# Altium integrated library Cypress USB Controllers.IntLib: 169 symbols (part 12 of 15)
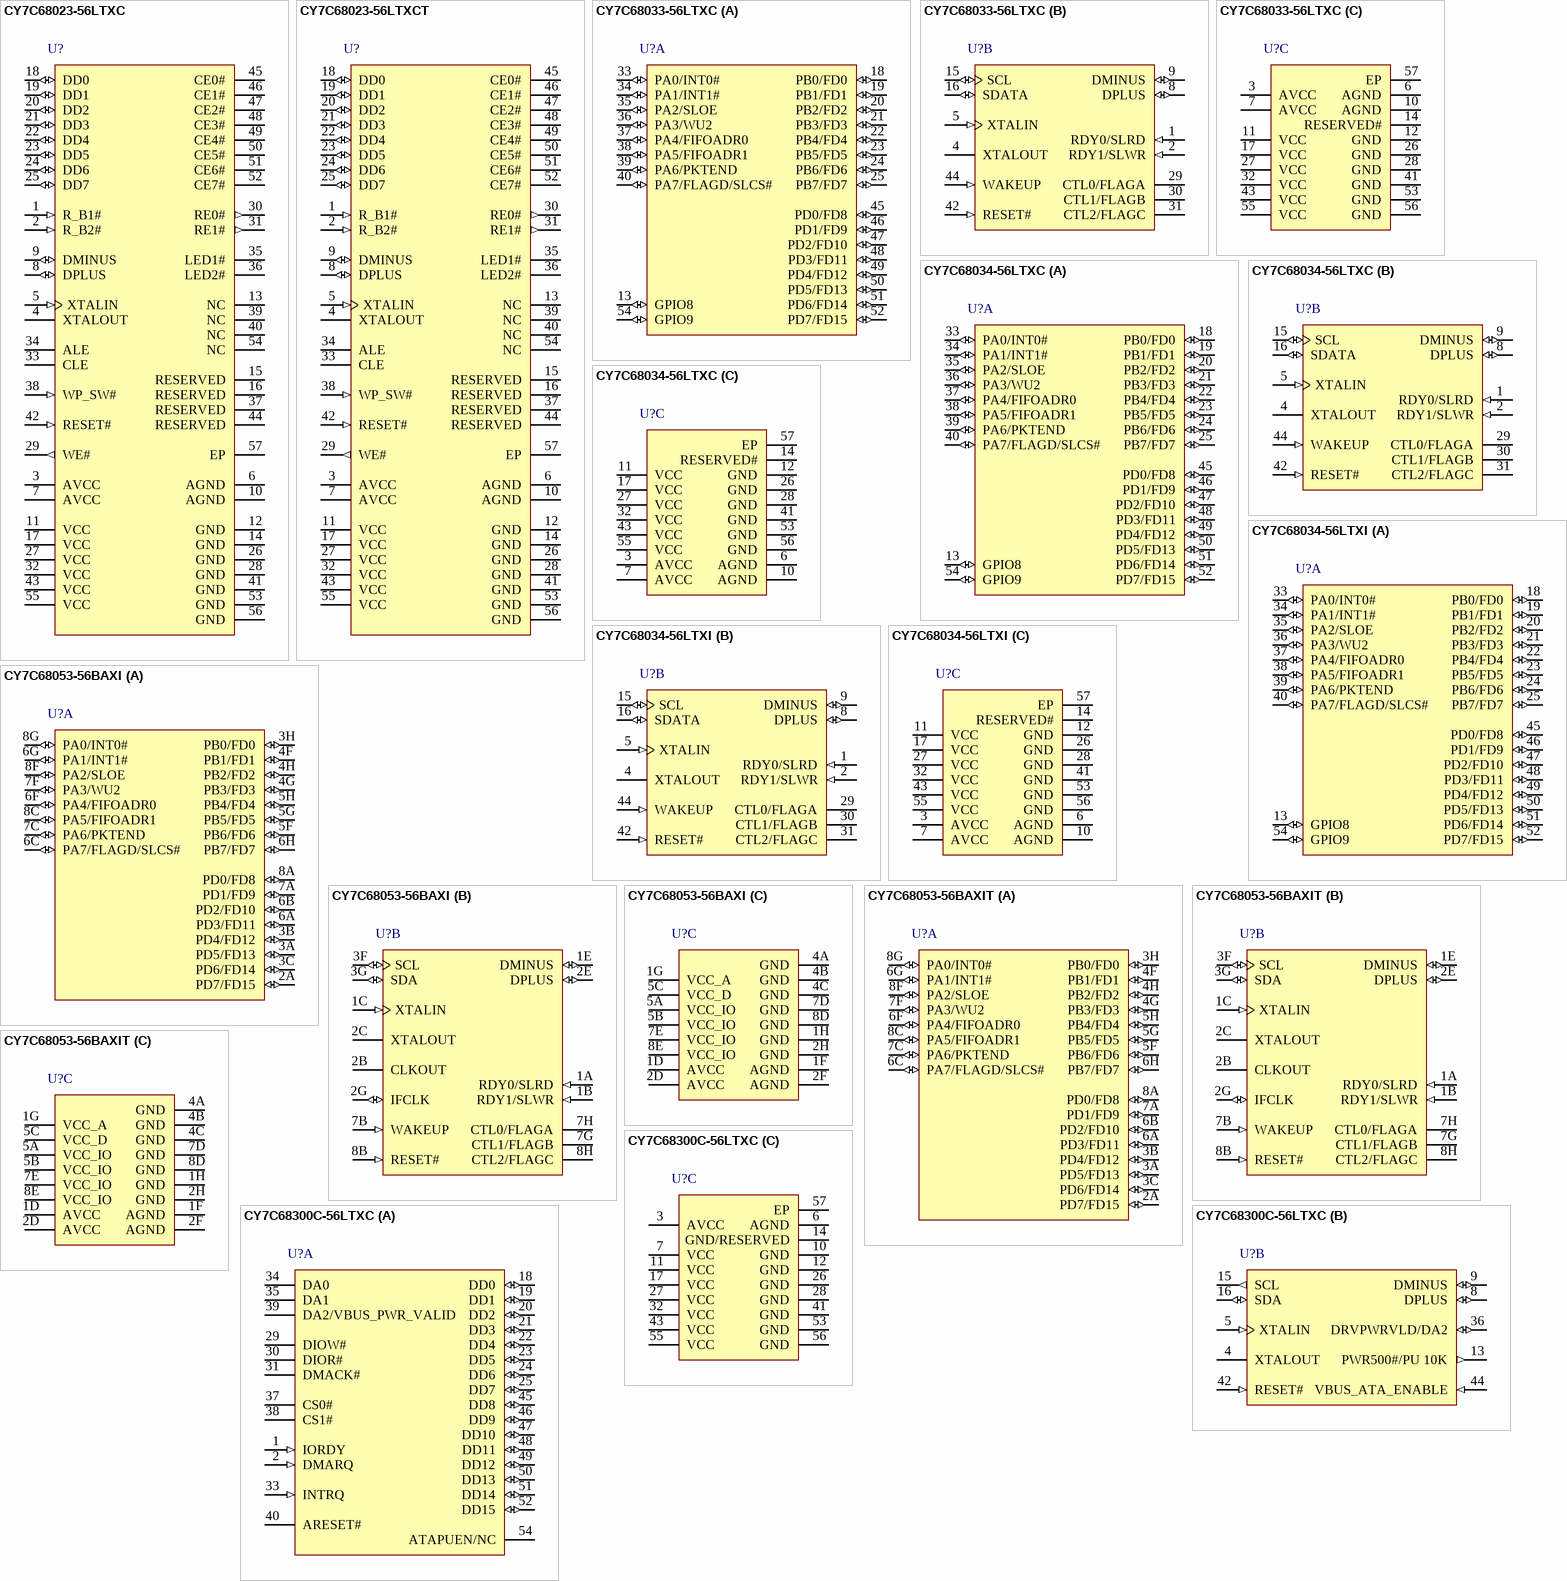
[diagram p33: symbols CY7C68023-56LTXC to CY7C68300C-56LTXC]

## CY7C68033-56LTXC
designator U?
EZ-USB(R) NX2LP-Flex(TM) Flexible USB NAND Flash Controller, 15 KB, 12 I/Os, 3 to 3.6 V, 0 to 70 degC, 56-Pin QFN (LTX56), Tray; Manufacturer: Cypress; PartNumber: CY7C68033-56LTXC; Max. Operating Voltage (V): 3.6; Memory Architecture: RAM; Memory Size (KB): 15; Min. Operating Voltage (V): 3; No. of I/Os: 12; Populated: Yes; DatasheetVersion: Rev. *J; PackageVersion: Rev. *D; PackageReference: LTX56; PackageDescription: 56-Pin Sawn QFN, Body 8 x 8 mm, Pitch 0.5 mm; Supplier 1: Digi-Key; Supplier Part Number 1: CY7C68033-56LTXC-ND; CPU Core: Enhanced 8051; Max. Operating Temp. (degreesC): 70; Min. Operating Temp. (degreesC): 0; Packing: Tray; RoHS: Pb-Free; Mounting Technology: Surface Mount; Code_JEDEC: MO-220; ComponentLink1Description: Manufacturer URL; ComponentLink1URL: http://www.cypress.com/; ComponentLink2Description: Datasheet; ComponentLink2URL: http://www.cypress.com/?docID=39611; ComponentLink3Description: Package Specification; ComponentLink3URL: http://www.cypress.com/?docID=47572
footprint CYP-LTX56-5200X4500TP_N (QFN, 56-Leads, Body 8.1x8.1mm, Pitch 0.5mm, Thermal Pad 5.2x4.5mm, IPC Medium Density)
footprint CYP-LTX56-5200X4500TP_L (QFN, 56-Leads, Body 8.1x8.1mm, Pitch 0.5mm, Thermal Pad 5.2x4.5mm, IPC High Density)
footprint CYP-LTX56-5200X4500TP_M (QFN, 56-Leads, Body 8.1x8.1mm, Pitch 0.5mm, Thermal Pad 5.2x4.5mm, IPC Low Density)
part A pins: 13 GPIO8 (io) "GPIO8: is a bidirectional I/O port pin", 18 PB0/FD0 (io), 19 PB1/FD1 (io), 20 PB2/FD2 (io), 21 PB3/FD3 (io), 22 PB4/FD4 (io), 23 PB5/FD5 (io), 24 PB6/FD6 (io), 25 PB7/FD7 (io), 33 PA0/INT0# (io), 34 PA1/INT1# (io), 35 PA2/SLOE (io), 36 PA3/WU2 (io), 37 PA4/FIFOADR0 (io), 38 PA5/FIFOADR1 (io), 39 PA6/PKTEND (io), 40 PA7/FLAGD/SLCS# (io), 45 PD0/FD8 (io), 46 PD1/FD9 (io), 47 PD2/FD10 (io), 48 PD3/FD11 (io), 49 PD4/FD12 (io), 50 PD5/FD13 (io), 51 PD6/FD14 (io), 52 PD7/FD15 (io), 54 GPIO9 (io) "GPIO9 is a bidirectional I/O port pin."
part B pins: 1 RDY0/SLRD (in), 2 RDY1/SLWR (in), 4 XTALOUT "Crystal Output. Connect this signal to a 24 MHz parallel-resonant, fundamental mode crystal and load capacitor to GND.If an external clock is used to drive XTALIN, leave this pin open.", 5 XTALIN (in) "Crystal Input. Connect this signal to a 24 MHz parallel-resonant, fundamental mode crystal and load capacitor to GND. It is also correct to drive XTALIN with an external 24-MHz square wave derived from another clock source. (See Datasheet)", 8 DPLUS (io) "USB D+ Signal. Connect to the USB D+ signal", 9 DMINUS (io) "USB D- Signal. Connect to the USB D- signal.", 15 SCL (io) "Clock for the I2C interface. Connect to VCC with a 2.2K resistor, even if no I2C peripheral is attached.", 16 SDATA (io) "Data for I2C compatible interface. Connect to VCC with a 2.2K resistor, even if no I2C compatible peripheral is attached.", 29 CTL0/FLAGA (hiz), 30 CTL1/FLAGB (hiz), 31 CTL2/FLAGC (hiz), 42 RESET# (in) "Active LOW Reset. Resets the entire chip.", 44 WAKEUP (in)
part C pins: 3 AVCC (power) "Analog VCC. Connect this pin to 3.3V power source. This signal provides power to the analog section of the chip.", 6 AGND (power) "Analog Ground. Connect to ground with as short a path as possible.", 7 AVCC (power) "Analog VCC. Connect this pin to 3.3V power source. This signal provides power to the analog section of the chip.", 10 AGND (power) "Analog Ground. Connect to ground with as short a path as possible.", 11 VCC (power) "VCC. Connect to 3.3 V power source.", 12 GND (power) "Ground.", 14 RESERVED# (power) "Reserved. Connect to ground.", 17 VCC (power) "VCC. Connect to 3.3 V power source.", 26 GND (power) "Ground.", 27 VCC (power) "VCC. Connect to 3.3 V power source.", 28 GND (power) "Ground.", 32 VCC (power) "VCC. Connect to 3.3 V power source.", 41 GND (power) "Ground.", 43 VCC (power) "VCC. Connect to 3.3 V power source.", 53 GND (power) "Ground.", 55 VCC (power) "VCC. Connect to 3.3 V power source.", 56 GND (power) "Ground.", 57 EP

## CY7C68034-56LTXC
designator U?
EZ-USB(R) NX2LP-Flex(TM) Flexible USB NAND Flash Controller, 15 KB, 12 I/Os, 3 to 3.6 V, 0 to 70 degC, 56-Pin QFN (LTX56), Tray; Manufacturer: Cypress; PartNumber: CY7C68034-56LTXC; Max. Operating Voltage (V): 3.6; Memory Architecture: RAM; Memory Size (KB): 15; Min. Operating Voltage (V): 3; No. of I/Os: 12; Populated: Yes; DatasheetVersion: Rev. *J; PackageVersion: Rev. *D; PackageReference: LTX56; PackageDescription: 56-Pin Sawn QFN, Body 8 x 8 mm, Pitch 0.5 mm; Supplier 1: Digi-Key; Supplier Part Number 1: CY7C68034-56LTXC-ND; CPU Core: Enhanced 8051; Max. Operating Temp. (degreesC): 70; Min. Operating Temp. (degreesC): 0; Packing: Tray; RoHS: Pb-Free; Mounting Technology: Surface Mount; Code_JEDEC: MO-220; ComponentLink1Description: Manufacturer URL; ComponentLink1URL: http://www.cypress.com/; ComponentLink2Description: Datasheet; ComponentLink2URL: http://www.cypress.com/?docID=39611; ComponentLink3Description: Package Specification; ComponentLink3URL: http://www.cypress.com/?docID=47572
footprint CYP-LTX56-5200X4500TP_N (QFN, 56-Leads, Body 8.1x8.1mm, Pitch 0.5mm, Thermal Pad 5.2x4.5mm, IPC Medium Density)
footprint CYP-LTX56-5200X4500TP_L (QFN, 56-Leads, Body 8.1x8.1mm, Pitch 0.5mm, Thermal Pad 5.2x4.5mm, IPC High Density)
footprint CYP-LTX56-5200X4500TP_M (QFN, 56-Leads, Body 8.1x8.1mm, Pitch 0.5mm, Thermal Pad 5.2x4.5mm, IPC Low Density)
part A pins: 13 GPIO8 (io) "GPIO8: is a bidirectional I/O port pin", 18 PB0/FD0 (io), 19 PB1/FD1 (io), 20 PB2/FD2 (io), 21 PB3/FD3 (io), 22 PB4/FD4 (io), 23 PB5/FD5 (io), 24 PB6/FD6 (io), 25 PB7/FD7 (io), 33 PA0/INT0# (io), 34 PA1/INT1# (io), 35 PA2/SLOE (io), 36 PA3/WU2 (io), 37 PA4/FIFOADR0 (io), 38 PA5/FIFOADR1 (io), 39 PA6/PKTEND (io), 40 PA7/FLAGD/SLCS# (io), 45 PD0/FD8 (io), 46 PD1/FD9 (io), 47 PD2/FD10 (io), 48 PD3/FD11 (io), 49 PD4/FD12 (io), 50 PD5/FD13 (io), 51 PD6/FD14 (io), 52 PD7/FD15 (io), 54 GPIO9 (io) "GPIO9 is a bidirectional I/O port pin."
part B pins: 1 RDY0/SLRD (in), 2 RDY1/SLWR (in), 4 XTALOUT "Crystal Output. Connect this signal to a 24 MHz parallel-resonant, fundamental mode crystal and load capacitor to GND.If an external clock is used to drive XTALIN, leave this pin open.", 5 XTALIN (in) "Crystal Input. Connect this signal to a 24 MHz parallel-resonant, fundamental mode crystal and load capacitor to GND. It is also correct to drive XTALIN with an external 24-MHz square wave derived from another clock source. (See Datasheet)", 8 DPLUS (io) "USB D+ Signal. Connect to the USB D+ signal", 9 DMINUS (io) "USB D- Signal. Connect to the USB D- signal.", 15 SCL (io) "Clock for the I2C interface. Connect to VCC with a 2.2K resistor, even if no I2C peripheral is attached.", 16 SDATA (io) "Data for I2C compatible interface. Connect to VCC with a 2.2K resistor, even if no I2C compatible peripheral is attached.", 29 CTL0/FLAGA (hiz), 30 CTL1/FLAGB (hiz), 31 CTL2/FLAGC (hiz), 42 RESET# (in) "Active LOW Reset. Resets the entire chip.", 44 WAKEUP (in)
part C pins: 3 AVCC (power) "Analog VCC. Connect this pin to 3.3V power source. This signal provides power to the analog section of the chip.", 6 AGND (power) "Analog Ground. Connect to ground with as short a path as possible.", 7 AVCC (power) "Analog VCC. Connect this pin to 3.3V power source. This signal provides power to the analog section of the chip.", 10 AGND (power) "Analog Ground. Connect to ground with as short a path as possible.", 11 VCC (power) "VCC. Connect to 3.3 V power source.", 12 GND (power) "Ground.", 14 RESERVED# (power) "Reserved. Connect to ground.", 17 VCC (power) "VCC. Connect to 3.3 V power source.", 26 GND (power) "Ground.", 27 VCC (power) "VCC. Connect to 3.3 V power source.", 28 GND (power) "Ground.", 32 VCC (power) "VCC. Connect to 3.3 V power source.", 41 GND (power) "Ground.", 43 VCC (power) "VCC. Connect to 3.3 V power source.", 53 GND (power) "Ground.", 55 VCC (power) "VCC. Connect to 3.3 V power source.", 56 GND (power) "Ground.", 57 EP

## CY7C68034-56LTXI
designator U?
EZ-USB(R) NX2LP-Flex(TM) Flexible USB NAND Flash Controller, 15 KB, 12 I/Os, 3 to 3.6 V, -40 to 85 degC, 56-Pin QFN (LTX56), Tray; Manufacturer: Cypress; PartNumber: CY7C68034-56LTXI; Max. Operating Voltage (V): 3.6; Memory Architecture: RAM; Memory Size (KB): 15; Min. Operating Voltage (V): 3; No. of I/Os: 12; Populated: Yes; DatasheetVersion: Rev. *J; PackageVersion: Rev. *D; PackageReference: LTX56; PackageDescription: 56-Pin Sawn QFN, Body 8 x 8 mm, Pitch 0.5 mm; Supplier 1: Digi-Key; Supplier Part Number 1: CY7C68034-56LTXI-ND; CPU Core: Enhanced 8051; Max. Operating Temp. (degreesC): 85; Min. Operating Temp. (degreesC): -40; Packing: Tray; RoHS: Pb-Free; Mounting Technology: Surface Mount; Code_JEDEC: MO-220; ComponentLink1Description: Manufacturer URL; ComponentLink1URL: http://www.cypress.com/; ComponentLink2Description: Datasheet; ComponentLink2URL: http://www.cypress.com/?docID=39611; ComponentLink3Description: Package Specification; ComponentLink3URL: http://www.cypress.com/?docID=47572
footprint CYP-LTX56-5200X4500TP_N (QFN, 56-Leads, Body 8.1x8.1mm, Pitch 0.5mm, Thermal Pad 5.2x4.5mm, IPC Medium Density)
footprint CYP-LTX56-5200X4500TP_L (QFN, 56-Leads, Body 8.1x8.1mm, Pitch 0.5mm, Thermal Pad 5.2x4.5mm, IPC High Density)
footprint CYP-LTX56-5200X4500TP_M (QFN, 56-Leads, Body 8.1x8.1mm, Pitch 0.5mm, Thermal Pad 5.2x4.5mm, IPC Low Density)
part A pins: 13 GPIO8 (io) "GPIO8: is a bidirectional I/O port pin", 18 PB0/FD0 (io), 19 PB1/FD1 (io), 20 PB2/FD2 (io), 21 PB3/FD3 (io), 22 PB4/FD4 (io), 23 PB5/FD5 (io), 24 PB6/FD6 (io), 25 PB7/FD7 (io), 33 PA0/INT0# (io), 34 PA1/INT1# (io), 35 PA2/SLOE (io), 36 PA3/WU2 (io), 37 PA4/FIFOADR0 (io), 38 PA5/FIFOADR1 (io), 39 PA6/PKTEND (io), 40 PA7/FLAGD/SLCS# (io), 45 PD0/FD8 (io), 46 PD1/FD9 (io), 47 PD2/FD10 (io), 48 PD3/FD11 (io), 49 PD4/FD12 (io), 50 PD5/FD13 (io), 51 PD6/FD14 (io), 52 PD7/FD15 (io), 54 GPIO9 (io) "GPIO9 is a bidirectional I/O port pin."
part B pins: 1 RDY0/SLRD (in), 2 RDY1/SLWR (in), 4 XTALOUT "Crystal Output. Connect this signal to a 24 MHz parallel-resonant, fundamental mode crystal and load capacitor to GND.If an external clock is used to drive XTALIN, leave this pin open.", 5 XTALIN (in) "Crystal Input. Connect this signal to a 24 MHz parallel-resonant, fundamental mode crystal and load capacitor to GND. It is also correct to drive XTALIN with an external 24-MHz square wave derived from another clock source. (See Datasheet)", 8 DPLUS (io) "USB D+ Signal. Connect to the USB D+ signal", 9 DMINUS (io) "USB D- Signal. Connect to the USB D- signal.", 15 SCL (io) "Clock for the I2C interface. Connect to VCC with a 2.2K resistor, even if no I2C peripheral is attached.", 16 SDATA (io) "Data for I2C compatible interface. Connect to VCC with a 2.2K resistor, even if no I2C compatible peripheral is attached.", 29 CTL0/FLAGA (hiz), 30 CTL1/FLAGB (hiz), 31 CTL2/FLAGC (hiz), 42 RESET# (in) "Active LOW Reset. Resets the entire chip.", 44 WAKEUP (in)
part C pins: 3 AVCC (power) "Analog VCC. Connect this pin to 3.3V power source. This signal provides power to the analog section of the chip.", 6 AGND (power) "Analog Ground. Connect to ground with as short a path as possible.", 7 AVCC (power) "Analog VCC. Connect this pin to 3.3V power source. This signal provides power to the analog section of the chip.", 10 AGND (power) "Analog Ground. Connect to ground with as short a path as possible.", 11 VCC (power) "VCC. Connect to 3.3 V power source.", 12 GND (power) "Ground.", 14 RESERVED# (power) "Reserved. Connect to ground.", 17 VCC (power) "VCC. Connect to 3.3 V power source.", 26 GND (power) "Ground.", 27 VCC (power) "VCC. Connect to 3.3 V power source.", 28 GND (power) "Ground.", 32 VCC (power) "VCC. Connect to 3.3 V power source.", 41 GND (power) "Ground.", 43 VCC (power) "VCC. Connect to 3.3 V power source.", 53 GND (power) "Ground.", 55 VCC (power) "VCC. Connect to 3.3 V power source.", 56 GND (power) "Ground.", 57 EP

## CY7C68053-56BAXI
designator U?
MoBL-USB(TM) FX2LP18 USB Microcontroller, 16 KB, 24 I/Os, -40 to 85 degC, 56-Pin VFBGA (BAX56), Tray; Manufacturer: Cypress; PartNumber: CY7C68053-56BAXI; Max. Operating Voltage (V): 3.3; Memory Architecture: RAM; Memory Size (KB): 16; Min. Operating Voltage (V): 1.8; No. of I/Os: 24; Populated: Yes; DatasheetVersion: Rev. *K; PackageVersion: Rev. *B, 09/2005; PackageReference: BAX56; PackageDescription: 56-Ball FBGA, Body 5 x 5 mm, Pitch 0.5 mm; Supplier 1: Digi-Key; Supplier Part Number 1: CY7C68053-56BAXI-ND; CPU Core: Enhanced 8051; Max. Operating Temp. (degreesC): 85; Min. Operating Temp. (degreesC): -40; Packing: Tray; RoHS: Pb-Free; Mounting Technology: Surface Mount; Code_JEDEC: MO-195C; ComponentLink1Description: Manufacturer URL; ComponentLink1URL: http://www.cypress.com/; ComponentLink2Description: Datasheet; ComponentLink2URL: http://www.cypress.com/?docID=47165; ComponentLink3Description: Package Specification; ComponentLink3URL: http://www.cypress.com/?docID=1010
footprint CYP-BAX56 (BGA, 56-Balls, Body 5x5mm, Pitch 0.5mm)
part A pins: 2A PD7/FD15 (io), 3A PD5/FD13 (io), 3B PD4/FD12 (io), 3C PD6/FD14 (io), 3H PB0/FD0 (io), 4F PB1/FD1 (io), 4G PB3/FD3 (io), 4H PB2/FD2 (io), 5F PB6/FD6 (io), 5G PB5/FD5 (io), 5H PB4/FD4 (io), 6A PD3/FD11 (io), 6B PD2/FD10 (io), 6C PA7/FLAGD/SLCS# (io), 6F PA4/FIFOADR0 (io), 6G PA1/INT1# (io), 6H PB7/FD7 (io), 7A PD1/FD9 (io), 7C PA6/PKTEND (io), 7F PA3/WU2 (io), 8A PD0/FD8 (io), 8C PA5/FIFOADR1 (io), 8F PA2/SLOE (io), 8G PA0/INT0# (io)
part B pins: 1A RDY0/SLRD (in), 1B RDY1/SLWR (in), 1C XTALIN (in) "Crystal Input. Connect this signal to a 24 MHz parallel-resonant, fundamental mode crystal and load capacitor to GND. It is also correct to drive XTALIN with an external 24-MHz square wave derived from another clock source. (See Datasheet)", 1E DMINUS (io) "USB D- Signal. Connect to the USB D- signal.", 2B CLKOUT (hiz) "12-, 24- or 48 MHz clock, phase locked to the 24 MHz input clock. The 8051 defaults to 12 MHz operation. The 8051 may three-state this output by setting CPUCS.1 = 1.", 2C XTALOUT "Crystal Output. Connect this signal to a 24 MHz parallel-resonant, fundamental mode crystal and load capacitor to GND.If an external clock is used to drive XTALIN, leave this pin open.", 2E DPLUS (io) "USB D+ Signal. Connect to the USB D+ signal", 2G IFCLK (io) "Interface Clock, used for synchronously clocking data into or out of the slave FIFOs. IFCLK also serves as a timing reference for all slave FIFO control signals and GPIF. When internal clocking is used (IFCONFIG.7 = 1) the (See Datasheet)", 3F SCL (io) "Clock for the I2C interface. Connect to VCC_IO or VCC with a 2.2K-10K pull up resistor. (An I2C peripheral is required.)", 3G SDA (io) "Data for the I2C interface. Connect to VCC_IO or VCC with a 2.2K-10K pull up resistor. (An I2C peripheral is required.)", 7B WAKEUP (in) "USB Wakeup. If the 8051 is in suspend, asserting this pin starts up the oscillator and interrupts the 8051 to allow it to exit the suspend mode. Holding WAKEUP asserted inhibits the MoBL-USB chip from suspending. This pin (See Datasheet)", 7G CTL1/FLAGB (hiz), 7H CTL0/FLAGA (hiz), 8B RESET# (in) "Active LOW Reset. Resets the entire chip. See section 2.9 ”Reset and Wakeup?on page 8 for more details.", 8H CTL2/FLAGC (hiz)
part C pins: 1D AVCC (power) "Analog VCC. Connect this pin to 3.3V power source. This signal provides power to the analog section of the chip.", 1F AGND (power) "Analog Ground. Connect to ground with as short a path as possible.", 1G VCC_A (power) "VCC. Connect this pin to 1.8V power source. (Supplies power to internal analog 1.8 V circuits.)", 1H GND (power) "Ground.", 2D AVCC (power) "Analog VCC. Connect this pin to 3.3V power source. This signal provides power to the analog section of the chip.", 2F AGND (power) "Analog Ground. Connect to ground with as short a path as possible.", 2H GND (power) "Ground.", 4A GND (power) "Ground.", 4B GND (power) "Ground.", 4C GND (power) "Ground.", 5A VCC_IO (power) "VCC. Connect to 3.3 V power source.", 5B VCC_IO (power) "VCC. Connect to 3.3 V power source.", 5C VCC_D (power) "VCC. Connect this pin to 1.8V power source. (Supplies power to internal digital 1.8 V circuits.) Provide the appropriate bulk and bypass capacitance for this supply rail.", 7D GND (power) "Ground.", 7E VCC_IO (power) "VCC. Connect to 3.3 V power source.", 8D GND (power) "Ground.", 8E VCC_IO (power) "VCC. Connect to 3.3 V power source."

## CY7C68053-56BAXIT
designator U?
MoBL-USB(TM) FX2LP18 USB Microcontroller, 16 KB, 24 I/Os, -40 to 85 degC, 56-Pin VFBGA (BAX56), Tape and Reel; Manufacturer: Cypress; PartNumber: CY7C68053-56BAXIT; Max. Operating Voltage (V): 3.3; Memory Architecture: RAM; Memory Size (KB): 16; Min. Operating Voltage (V): 1.8; No. of I/Os: 24; Populated: Yes; DatasheetVersion: Rev. *K; PackageVersion: Rev. *B, 09/2005; PackageReference: BAX56; PackageDescription: 56-Ball FBGA, Body 5 x 5 mm, Pitch 0.5 mm; Supplier 1: Digi-Key; Supplier Part Number 1: CY7C68053-56BAXIT-ND; CPU Core: Enhanced 8051; Max. Operating Temp. (degreesC): 85; Min. Operating Temp. (degreesC): -40; Packing: Tape and Reel; RoHS: Pb-Free; Mounting Technology: Surface Mount; Code_JEDEC: MO-195C; ComponentLink1Description: Manufacturer URL; ComponentLink1URL: http://www.cypress.com/; ComponentLink2Description: Datasheet; ComponentLink2URL: http://www.cypress.com/?docID=47165; ComponentLink3Description: Package Specification; ComponentLink3URL: http://www.cypress.com/?docID=1010
footprint CYP-BAX56 (BGA, 56-Balls, Body 5x5mm, Pitch 0.5mm)
part A pins: 2A PD7/FD15 (io), 3A PD5/FD13 (io), 3B PD4/FD12 (io), 3C PD6/FD14 (io), 3H PB0/FD0 (io), 4F PB1/FD1 (io), 4G PB3/FD3 (io), 4H PB2/FD2 (io), 5F PB6/FD6 (io), 5G PB5/FD5 (io), 5H PB4/FD4 (io), 6A PD3/FD11 (io), 6B PD2/FD10 (io), 6C PA7/FLAGD/SLCS# (io), 6F PA4/FIFOADR0 (io), 6G PA1/INT1# (io), 6H PB7/FD7 (io), 7A PD1/FD9 (io), 7C PA6/PKTEND (io), 7F PA3/WU2 (io), 8A PD0/FD8 (io), 8C PA5/FIFOADR1 (io), 8F PA2/SLOE (io), 8G PA0/INT0# (io)
part B pins: 1A RDY0/SLRD (in), 1B RDY1/SLWR (in), 1C XTALIN (in) "Crystal Input. Connect this signal to a 24 MHz parallel-resonant, fundamental mode crystal and load capacitor to GND. It is also correct to drive XTALIN with an external 24-MHz square wave derived from another clock source. (See Datasheet)", 1E DMINUS (io) "USB D- Signal. Connect to the USB D- signal.", 2B CLKOUT (hiz) "12-, 24- or 48 MHz clock, phase locked to the 24 MHz input clock. The 8051 defaults to 12 MHz operation. The 8051 may three-state this output by setting CPUCS.1 = 1.", 2C XTALOUT "Crystal Output. Connect this signal to a 24 MHz parallel-resonant, fundamental mode crystal and load capacitor to GND.If an external clock is used to drive XTALIN, leave this pin open.", 2E DPLUS (io) "USB D+ Signal. Connect to the USB D+ signal", 2G IFCLK (io) "Interface Clock, used for synchronously clocking data into or out of the slave FIFOs. IFCLK also serves as a timing reference for all slave FIFO control signals and GPIF. When internal clocking is used (IFCONFIG.7 = 1) the (See Datasheet)", 3F SCL (io) "Clock for the I2C interface. Connect to VCC_IO or VCC with a 2.2K-10K pull up resistor. (An I2C peripheral is required.)", 3G SDA (io) "Data for the I2C interface. Connect to VCC_IO or VCC with a 2.2K-10K pull up resistor. (An I2C peripheral is required.)", 7B WAKEUP (in) "USB Wakeup. If the 8051 is in suspend, asserting this pin starts up the oscillator and interrupts the 8051 to allow it to exit the suspend mode. Holding WAKEUP asserted inhibits the MoBL-USB chip from suspending. This pin (See Datasheet)", 7G CTL1/FLAGB (hiz), 7H CTL0/FLAGA (hiz), 8B RESET# (in) "Active LOW Reset. Resets the entire chip. See section 2.9 ”Reset and Wakeup?on page 8 for more details.", 8H CTL2/FLAGC (hiz)
part C pins: 1D AVCC (power) "Analog VCC. Connect this pin to 3.3V power source. This signal provides power to the analog section of the chip.", 1F AGND (power) "Analog Ground. Connect to ground with as short a path as possible.", 1G VCC_A (power) "VCC. Connect this pin to 1.8V power source. (Supplies power to internal analog 1.8 V circuits.)", 1H GND (power) "Ground.", 2D AVCC (power) "Analog VCC. Connect this pin to 3.3V power source. This signal provides power to the analog section of the chip.", 2F AGND (power) "Analog Ground. Connect to ground with as short a path as possible.", 2H GND (power) "Ground.", 4A GND (power) "Ground.", 4B GND (power) "Ground.", 4C GND (power) "Ground.", 5A VCC_IO (power) "VCC. Connect to 3.3 V power source.", 5B VCC_IO (power) "VCC. Connect to 3.3 V power source.", 5C VCC_D (power) "VCC. Connect this pin to 1.8V power source. (Supplies power to internal digital 1.8 V circuits.) Provide the appropriate bulk and bypass capacitance for this supply rail.", 7D GND (power) "Ground.", 7E VCC_IO (power) "VCC. Connect to 3.3 V power source.", 8D GND (power) "Ground.", 8E VCC_IO (power) "VCC. Connect to 3.3 V power source."

## CY7C68300C-56LTXC
designator U?
EZ-USB AT2LP(TM) USB 2.0 to ATA/ATAPI Bridge, 3 to 3.6 V, 0 to 70 degC, 56-Pin QFN (LTX56), Tray; Manufacturer: Cypress; PartNumber: CY7C68300C-56LTXC; Max. Operating Voltage (V): 3.6; Min. Operating Voltage (V): 3; Populated: Yes; DatasheetVersion: Rev. *K; PackageVersion: Rev. *D; PackageReference: LTX56; PackageDescription: 56-Pin Sawn QFN, Body 8 x 8 mm, Pitch 0.5 mm; Supplier 1: Digi-Key; Supplier Part Number 1: CY7C68300C-56LTXC-ND; Max. Operating Temp. (degreesC): 70; Min. Operating Temp. (degreesC): 0; Packing: Tray; RoHS: Pb-Free; Mounting Technology: Surface Mount; Code_JEDEC: MO-220; ComponentLink1Description: Manufacturer URL; ComponentLink1URL: http://www.cypress.com/; ComponentLink2Description: Datasheet; ComponentLink2URL: http://www.cypress.com/?docID=36507; ComponentLink3Description: Package Specification; ComponentLink3URL: http://www.cypress.com/?docID=47572
footprint CYP-LTX56-5200X4500TP_N (QFN, 56-Leads, Body 8.1x8.1mm, Pitch 0.5mm, Thermal Pad 5.2x4.5mm, IPC Medium Density)
footprint CYP-LTX56-5200X4500TP_L (QFN, 56-Leads, Body 8.1x8.1mm, Pitch 0.5mm, Thermal Pad 5.2x4.5mm, IPC High Density)
footprint CYP-LTX56-5200X4500TP_M (QFN, 56-Leads, Body 8.1x8.1mm, Pitch 0.5mm, Thermal Pad 5.2x4.5mm, IPC Low Density)
part A pins: 1 IORDY (in) "ATA control. Apply a 1 k pull up to 3.3 V.", 2 DMARQ (in) "ATA control.", 18 DD0 (io) "ATA data bit 0.", 19 DD1 (io) "ATA data bit 1.", 20 DD2 (io) "ATA data bit 2.", 21 DD3 (io) "ATA data bit 3.", 22 DD4 (io) "ATA data bit 4.", 23 DD5 (io) "ATA data bit 5.", 24 DD6 (io) "ATA data bit 6.", 25 DD7 (io) "ATA data bit 7.", 29 DIOW# (hiz) "ATA control.", 30 DIOR# (hiz) "ATA control.", 31 DMACK# (hiz) "ATA control.", 33 INTRQ (in) "ATA interrupt request.", 34 DA0 (hiz) "ATA address.", 35 DA1 (hiz) "ATA address.", 37 CS0# (hiz) "ATA chip select.", 38 CS1# (hiz) "ATA chip select.", 39 DA2/VBUS_PWR_VALID (hiz), 40 ARESET# (hiz) "ATA reset.", 45 DD8 (io) "ATA data bit 8.", 46 DD9 (io) "ATA data bit 9.", 47 DD10 (io) "ATA data bit 10.", 48 DD11 (io) "ATA data bit 11.", 49 DD12 (io) "ATA data bit 12.", 50 DD13 (io) "ATA data bit 13.", 51 DD14 (io) "ATA data bit 14.", 52 DD15 (io) "ATA data bit 15.", 54 ATAPUEN/NC (hiz)
part B pins: 4 XTALOUT "24 MHz crystal output.", 5 XTALIN (in) "24 MHz crystal input", 8 DPLUS (io) "USB D+ signal", 9 DMINUS (io) "USB D- signal", 13 PWR500#/PU 10K (out), 15 SCL (out) "Clock signal for I2C interface.Apply a 2.2k pull up resistor.", 16 SDA (io) "Data signal for I2C interface.Apply a 2.2k pull up resistor", 36 DRVPWRVLD/DA2 (io), 42 RESET# (in) "Chip reset", 44 VBUS_ATA_ENABLE (in) "VBUS detection"
part C pins: 3 AVCC (power) "Analog VCC. Connect to VCC through the shortest path possible.", 6 AGND (power) "Analog ground. Connect to ground with as short a path as possible.", 7 VCC (power) "VCC. Connect to 3.3 V power source.", 10 GND (power) "Ground.", 11 VCC (power) "VCC. Connect to 3.3 V power source.", 12 GND (power) "Ground.", 14 GND/RESERVED (power) "Reserved. Tie to GND.", 17 VCC (power) "VCC. Connect to 3.3 V power source.", 26 GND (power) "Ground.", 27 VCC (power) "VCC. Connect to 3.3 V power source.", 28 GND (power) "Ground.", 32 VCC (power) "VCC. Connect to 3.3 V power source.", 41 GND (power) "Ground.", 43 VCC (power) "VCC. Connect to 3.3 V power source.", 53 GND (power) "Ground.", 55 VCC (power) "VCC. Connect to 3.3 V power source.", 56 GND (power) "Ground.", 57 EP

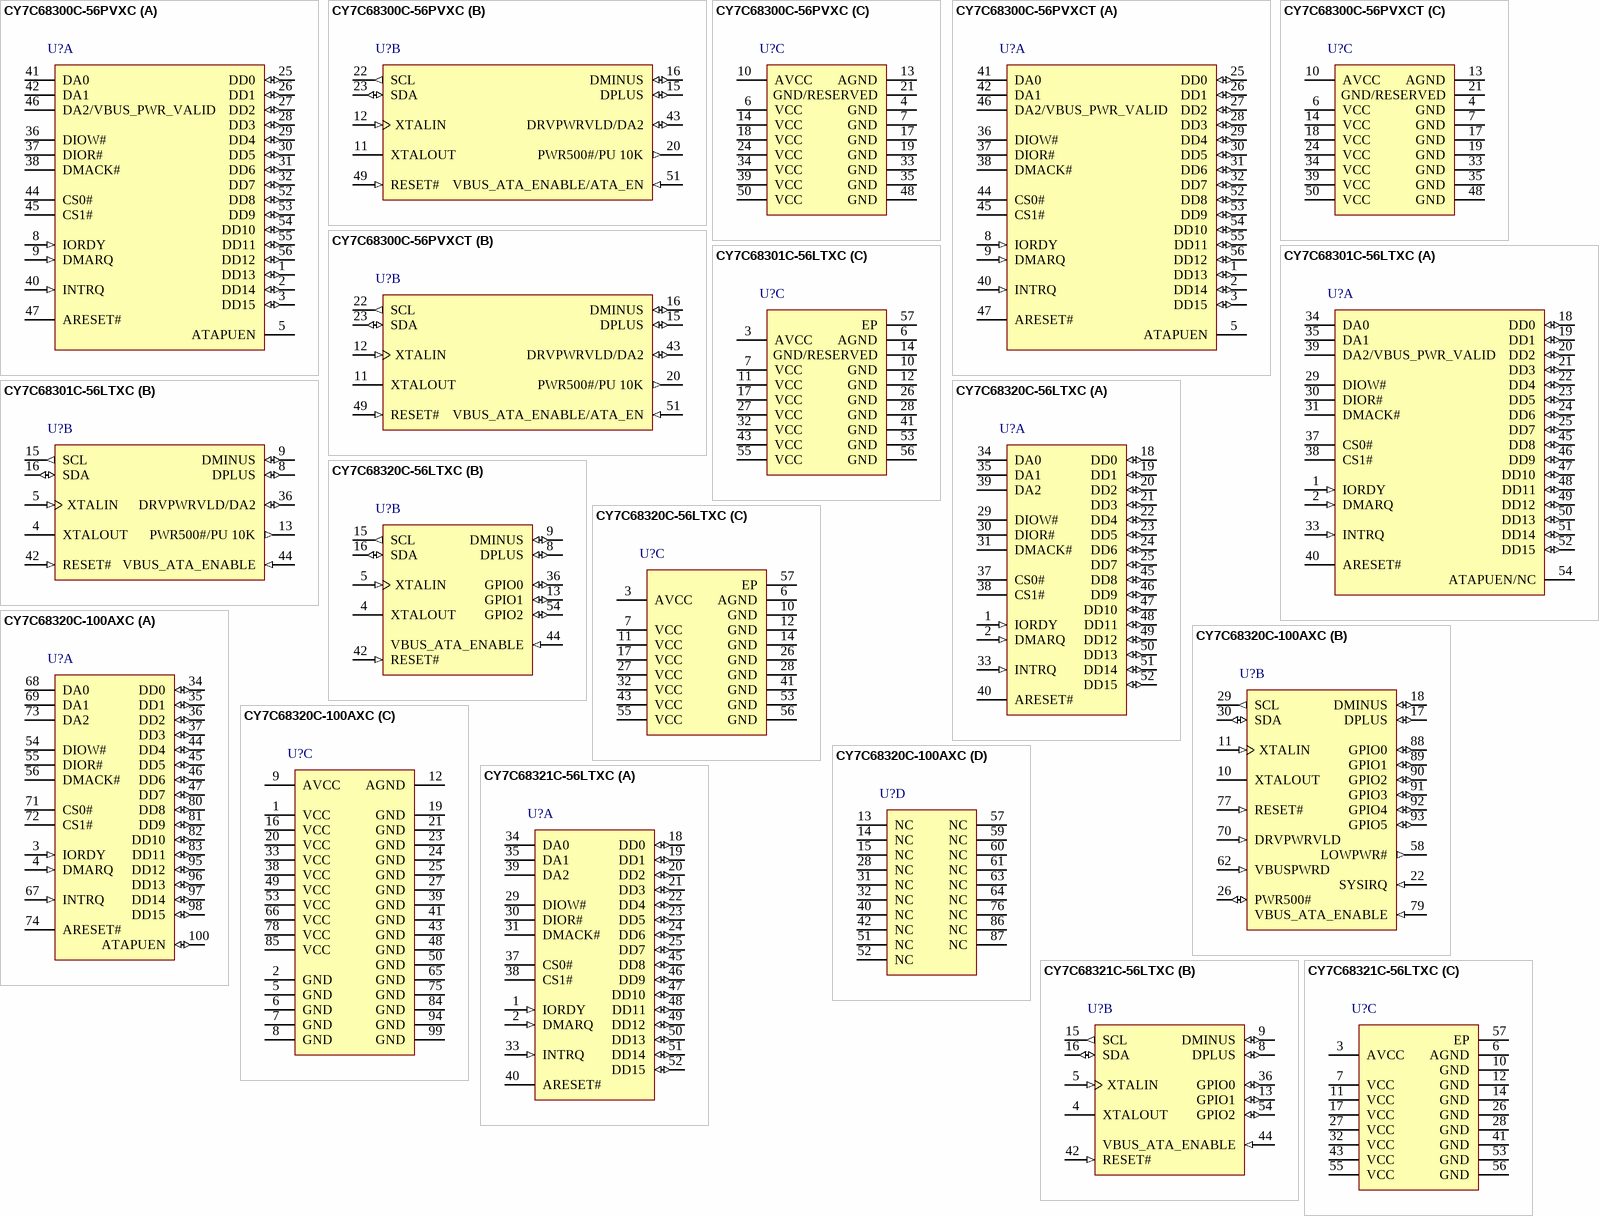
[diagram p13: symbols CY7C68300C-56PVXC to CY7C68321C-56LTXC]

## CY7C68300C-56PVXC
designator U?
EZ-USB AT2LP(TM) USB 2.0 to ATA/ATAPI Bridge, 3 to 3.6 V, 0 to 70 degC, 56-Pin SSOP (PVX56), Tube; Manufacturer: Cypress; PartNumber: CY7C68300C-56PVXC; Max. Operating Voltage (V): 3.6; Min. Operating Voltage (V): 3; Populated: Yes; DatasheetVersion: Rev. *K; PackageVersion: Rev. *F, 08/2012; PackageReference: PVX56; PackageDescription: 56-Pin Shrunk Small Outline Package, Body 7.506 x 18.415 mm, Pitch 0.635 mm; Supplier 1: Digi-Key; Supplier Part Number 1: 428-2266-5-ND; Max. Operating Temp. (degreesC): 70; Min. Operating Temp. (degreesC): 0; Packing: Tube; RoHS: Pb-Free; Mounting Technology: Surface Mount; ComponentLink1Description: Manufacturer URL; ComponentLink1URL: http://www.cypress.com/; ComponentLink2Description: Datasheet; ComponentLink2URL: http://www.cypress.com/?docID=36507; ComponentLink3Description: Package Specification; ComponentLink3URL: http://www.cypress.com/?docID=39259
footprint CYP-PVX56_N (SOP, 56-Leads, Body 18.415x7.506mm, Pitch 0.635mm , IPC Medium Density)
footprint CYP-PVX56_L (SOP, 56-Leads, Body 18.415x7.506mm, Pitch 0.635mm, IPC High Density)
footprint CYP-PVX56_M (SOP, 56-Leads, Body 18.415x7.506mm, Pitch 0.635mm, IPC Low Density)
part A pins: 1 DD13 (io) "ATA data bit 13.", 2 DD14 (io) "ATA data bit 14.", 3 DD15 (io) "ATA data bit 15.", 5 ATAPUEN (hiz) "Bus powered ATA pull up voltage source (see ATAPUEN on page 15).", 8 IORDY (in) "ATA control. Apply a 1 k pull up to 3.3 V.", 9 DMARQ (in) "ATA control.", 25 DD0 (io) "ATA data bit 0.", 26 DD1 (io) "ATA data bit 1.", 27 DD2 (io) "ATA data bit 2.", 28 DD3 (io) "ATA data bit 3.", 29 DD4 (io) "ATA data bit 4.", 30 DD5 (io) "ATA data bit 5.", 31 DD6 (io) "ATA data bit 6.", 32 DD7 (io) "ATA data bit 7.", 36 DIOW# (hiz) "ATA control.", 37 DIOR# (hiz) "ATA control.", 38 DMACK# (hiz) "ATA control.", 40 INTRQ (in) "ATA interrupt request.", 41 DA0 (hiz) "ATA address.", 42 DA1 (hiz) "ATA address.", 44 CS0# (hiz) "ATA chip select.", 45 CS1# (hiz) "ATA chip select.", 46 DA2/VBUS_PWR_VALID (hiz) "ATA address.", 47 ARESET# (hiz) "ATA reset.", 52 DD8 (io) "ATA data bit 8.", 53 DD9 (io) "ATA data bit 9.", 54 DD10 (io) "ATA data bit 10.", 55 DD11 (io) "ATA data bit 11.", 56 DD12 (io) "ATA data bit 12."
part B pins: 11 XTALOUT "24 MHz crystal output.", 12 XTALIN (in) "24 MHz crystal input", 15 DPLUS (io) "USB D+ signal", 16 DMINUS (io) "USB D- signal", 20 PWR500#/PU 10K (out) "bMaxPower request granted indicator.", 22 SCL (out) "Clock signal for I2C interface.Apply a 2.2k pull up resistor.", 23 SDA (io) "Data signal for I2C interface.Apply a 2.2k pull up resistor", 43 DRVPWRVLD/DA2 (io) "Device presence detect. (See DRVPWRVLD on page 14). Configurable logical polarity is controlled by EEPROM address 0x08. This pin must be pulled HIGH if functionality is not used. Alternate function. Input when the EEPROM (See Datasheet)", 49 RESET# (in) "Chip reset", 51 VBUS_ATA_ENABLE/ATA_EN (in) "VBUS detection"
part C pins: 4 GND (power) "Ground.", 6 VCC (power) "VCC. Connect to 3.3 V power source.", 7 GND (power) "Ground.", 10 AVCC (power) "Analog VCC. Connect to VCC through the shortest path possible.", 13 AGND (power) "Analog ground. Connect to ground with as short a path as possible.", 14 VCC (power) "VCC. Connect to 3.3 V power source.", 17 GND (power) "Ground.", 18 VCC (power) "VCC. Connect to 3.3 V power source.", 19 GND (power) "Ground.", 21 GND/RESERVED (power) "Reserved. Tie to GND.", 24 VCC (power) "VCC. Connect to 3.3 V power source.", 33 GND (power) "Ground.", 34 VCC (power) "VCC. Connect to 3.3 V power source.", 35 GND (power) "Ground.", 39 VCC (power) "VCC. Connect to 3.3 V power source.", 48 GND (power) "Ground.", 50 VCC (power) "VCC. Connect to 3.3 V power source."

## CY7C68300C-56PVXCT
designator U?
EZ-USB AT2LP(TM) USB 2.0 to ATA/ATAPI Bridge, 3 to 3.6 V, 0 to 70 degC, 56-Pin SSOP (PVX56), Tape and Reel; Manufacturer: Cypress; PartNumber: CY7C68300C-56PVXCT; Max. Operating Voltage (V): 3.6; Min. Operating Voltage (V): 3; Populated: Yes; DatasheetVersion: Rev. *K; PackageVersion: Rev. *F, 08/2012; PackageReference: PVX56; PackageDescription: 56-Pin Shrunk Small Outline Package, Body 7.506 x 18.415 mm, Pitch 0.635 mm; Supplier 1: Digi-Key; Supplier Part Number 1: CY7C68300C-56PVXCT-ND; Max. Operating Temp. (degreesC): 70; Min. Operating Temp. (degreesC): 0; Packing: Tape and Reel; RoHS: Pb-Free; Mounting Technology: Surface Mount; ComponentLink1Description: Manufacturer URL; ComponentLink1URL: http://www.cypress.com/; ComponentLink2Description: Datasheet; ComponentLink2URL: http://www.cypress.com/?docID=36507; ComponentLink3Description: Package Specification; ComponentLink3URL: http://www.cypress.com/?docID=39259
footprint CYP-PVX56_N (SOP, 56-Leads, Body 18.415x7.506mm, Pitch 0.635mm , IPC Medium Density)
footprint CYP-PVX56_L (SOP, 56-Leads, Body 18.415x7.506mm, Pitch 0.635mm, IPC High Density)
footprint CYP-PVX56_M (SOP, 56-Leads, Body 18.415x7.506mm, Pitch 0.635mm, IPC Low Density)
part A pins: 1 DD13 (io) "ATA data bit 13.", 2 DD14 (io) "ATA data bit 14.", 3 DD15 (io) "ATA data bit 15.", 5 ATAPUEN (hiz) "Bus powered ATA pull up voltage source (see ATAPUEN on page 15).", 8 IORDY (in) "ATA control. Apply a 1 k pull up to 3.3 V.", 9 DMARQ (in) "ATA control.", 25 DD0 (io) "ATA data bit 0.", 26 DD1 (io) "ATA data bit 1.", 27 DD2 (io) "ATA data bit 2.", 28 DD3 (io) "ATA data bit 3.", 29 DD4 (io) "ATA data bit 4.", 30 DD5 (io) "ATA data bit 5.", 31 DD6 (io) "ATA data bit 6.", 32 DD7 (io) "ATA data bit 7.", 36 DIOW# (hiz) "ATA control.", 37 DIOR# (hiz) "ATA control.", 38 DMACK# (hiz) "ATA control.", 40 INTRQ (in) "ATA interrupt request.", 41 DA0 (hiz) "ATA address.", 42 DA1 (hiz) "ATA address.", 44 CS0# (hiz) "ATA chip select.", 45 CS1# (hiz) "ATA chip select.", 46 DA2/VBUS_PWR_VALID (hiz) "ATA address.", 47 ARESET# (hiz) "ATA reset.", 52 DD8 (io) "ATA data bit 8.", 53 DD9 (io) "ATA data bit 9.", 54 DD10 (io) "ATA data bit 10.", 55 DD11 (io) "ATA data bit 11.", 56 DD12 (io) "ATA data bit 12."
part B pins: 11 XTALOUT "24 MHz crystal output.", 12 XTALIN (in) "24 MHz crystal input", 15 DPLUS (io) "USB D+ signal", 16 DMINUS (io) "USB D- signal", 20 PWR500#/PU 10K (out) "bMaxPower request granted indicator.", 22 SCL (out) "Clock signal for I2C interface.Apply a 2.2k pull up resistor.", 23 SDA (io) "Data signal for I2C interface.Apply a 2.2k pull up resistor", 43 DRVPWRVLD/DA2 (io) "Device presence detect. (See DRVPWRVLD on page 14). Configurable logical polarity is controlled by EEPROM address 0x08. This pin must be pulled HIGH if functionality is not used. Alternate function. Input when the EEPROM (See Datasheet)", 49 RESET# (in) "Chip reset", 51 VBUS_ATA_ENABLE/ATA_EN (in) "VBUS detection"
part C pins: 4 GND (power) "Ground.", 6 VCC (power) "VCC. Connect to 3.3 V power source.", 7 GND (power) "Ground.", 10 AVCC (power) "Analog VCC. Connect to VCC through the shortest path possible.", 13 AGND (power) "Analog ground. Connect to ground with as short a path as possible.", 14 VCC (power) "VCC. Connect to 3.3 V power source.", 17 GND (power) "Ground.", 18 VCC (power) "VCC. Connect to 3.3 V power source.", 19 GND (power) "Ground.", 21 GND/RESERVED (power) "Reserved. Tie to GND.", 24 VCC (power) "VCC. Connect to 3.3 V power source.", 33 GND (power) "Ground.", 34 VCC (power) "VCC. Connect to 3.3 V power source.", 35 GND (power) "Ground.", 39 VCC (power) "VCC. Connect to 3.3 V power source.", 48 GND (power) "Ground.", 50 VCC (power) "VCC. Connect to 3.3 V power source."

## CY7C68301C-56LTXC
designator U?
EZ-USB AT2LP(TM) USB 2.0 to ATA/ATAPI Bridge, 3 to 3.6 V, 0 to 70 degC, 56-Pin QFN (LTX56), Tray; Manufacturer: Cypress; PartNumber: CY7C68301C-56LTXC; Max. Operating Voltage (V): 3.6; Min. Operating Voltage (V): 3; Populated: Yes; DatasheetVersion: Rev. *K; PackageVersion: Rev. *D; PackageReference: LTX56; PackageDescription: 56-Pin Sawn QFN, Body 8 x 8 mm, Pitch 0.5 mm; Supplier 1: Digi-Key; Supplier Part Number 1: CY7C68301C-56LTXC-ND; Max. Operating Temp. (degreesC): 70; Min. Operating Temp. (degreesC): 0; Packing: Tray; RoHS: Pb-Free; Mounting Technology: Surface Mount; Code_JEDEC: MO-220; ComponentLink1Description: Manufacturer URL; ComponentLink1URL: http://www.cypress.com/; ComponentLink2Description: Datasheet; ComponentLink2URL: http://www.cypress.com/?docID=36507; ComponentLink3Description: Package Specification; ComponentLink3URL: http://www.cypress.com/?docID=47572
footprint CYP-LTX56-5200X4500TP_N (QFN, 56-Leads, Body 8.1x8.1mm, Pitch 0.5mm, Thermal Pad 5.2x4.5mm, IPC Medium Density)
footprint CYP-LTX56-5200X4500TP_L (QFN, 56-Leads, Body 8.1x8.1mm, Pitch 0.5mm, Thermal Pad 5.2x4.5mm, IPC High Density)
footprint CYP-LTX56-5200X4500TP_M (QFN, 56-Leads, Body 8.1x8.1mm, Pitch 0.5mm, Thermal Pad 5.2x4.5mm, IPC Low Density)
part A pins: 1 IORDY (in) "ATA control. Apply a 1 k pull up to 3.3 V.", 2 DMARQ (in) "ATA control.", 18 DD0 (io) "ATA data bit 0.", 19 DD1 (io) "ATA data bit 1.", 20 DD2 (io) "ATA data bit 2.", 21 DD3 (io) "ATA data bit 3.", 22 DD4 (io) "ATA data bit 4.", 23 DD5 (io) "ATA data bit 5.", 24 DD6 (io) "ATA data bit 6.", 25 DD7 (io) "ATA data bit 7.", 29 DIOW# (hiz) "ATA control.", 30 DIOR# (hiz) "ATA control.", 31 DMACK# (hiz) "ATA control.", 33 INTRQ (in) "ATA interrupt request.", 34 DA0 (hiz) "ATA address.", 35 DA1 (hiz) "ATA address.", 37 CS0# (hiz) "ATA chip select.", 38 CS1# (hiz) "ATA chip select.", 39 DA2/VBUS_PWR_VALID (hiz), 40 ARESET# (hiz) "ATA reset.", 45 DD8 (io) "ATA data bit 8.", 46 DD9 (io) "ATA data bit 9.", 47 DD10 (io) "ATA data bit 10.", 48 DD11 (io) "ATA data bit 11.", 49 DD12 (io) "ATA data bit 12.", 50 DD13 (io) "ATA data bit 13.", 51 DD14 (io) "ATA data bit 14.", 52 DD15 (io) "ATA data bit 15.", 54 ATAPUEN/NC (hiz)
part B pins: 4 XTALOUT "24 MHz crystal output.", 5 XTALIN (in) "24 MHz crystal input", 8 DPLUS (io) "USB D+ signal", 9 DMINUS (io) "USB D- signal", 13 PWR500#/PU 10K (out), 15 SCL (out) "Clock signal for I2C interface.Apply a 2.2k pull up resistor.", 16 SDA (io) "Data signal for I2C interface.Apply a 2.2k pull up resistor", 36 DRVPWRVLD/DA2 (io), 42 RESET# (in) "Chip reset", 44 VBUS_ATA_ENABLE (in) "VBUS detection"
part C pins: 3 AVCC (power) "Analog VCC. Connect to VCC through the shortest path possible.", 6 AGND (power) "Analog ground. Connect to ground with as short a path as possible.", 7 VCC (power) "VCC. Connect to 3.3 V power source.", 10 GND (power) "Ground.", 11 VCC (power) "VCC. Connect to 3.3 V power source.", 12 GND (power) "Ground.", 14 GND/RESERVED (power) "Reserved. Tie to GND.", 17 VCC (power) "VCC. Connect to 3.3 V power source.", 26 GND (power) "Ground.", 27 VCC (power) "VCC. Connect to 3.3 V power source.", 28 GND (power) "Ground.", 32 VCC (power) "VCC. Connect to 3.3 V power source.", 41 GND (power) "Ground.", 43 VCC (power) "VCC. Connect to 3.3 V power source.", 53 GND (power) "Ground.", 55 VCC (power) "VCC. Connect to 3.3 V power source.", 56 GND (power) "Ground.", 57 EP

## CY7C68320C-56LTXC
designator U?
EZ-USB AT2LP(TM) USB 2.0 to ATA/ATAPI Bridge, 3 I/Os, 3 to 3.6 V, 0 to 70 degC, 56-Pin QFN (LTX56), Tray; Manufacturer: Cypress; PartNumber: CY7C68320C-56LTXC; Max. Operating Voltage (V): 3.6; Min. Operating Voltage (V): 3; Populated: Yes; DatasheetVersion: Rev. *K; PackageVersion: Rev. *D; PackageReference: LTX56; PackageDescription: 56-Pin Sawn QFN, Body 8 x 8 mm, Pitch 0.5 mm; Supplier 1: Digi-Key; Supplier Part Number 1: CY7C68320C-56LTXC-ND; Max. Operating Temp. (degreesC): 70; Min. Operating Temp. (degreesC): 0; No. of I/Os: 3; Packing: Tray; RoHS: Pb-Free; Mounting Technology: Surface Mount; Code_JEDEC: MO-220; ComponentLink1Description: Manufacturer URL; ComponentLink1URL: http://www.cypress.com/; ComponentLink2Description: Datasheet; ComponentLink2URL: http://www.cypress.com/?docID=36507; ComponentLink3Description: Package Specification; ComponentLink3URL: http://www.cypress.com/?docID=47572
footprint CYP-LTX56-5200X4500TP_N (QFN, 56-Leads, Body 8.1x8.1mm, Pitch 0.5mm, Thermal Pad 5.2x4.5mm, IPC Medium Density)
footprint CYP-LTX56-5200X4500TP_L (QFN, 56-Leads, Body 8.1x8.1mm, Pitch 0.5mm, Thermal Pad 5.2x4.5mm, IPC High Density)
footprint CYP-LTX56-5200X4500TP_M (QFN, 56-Leads, Body 8.1x8.1mm, Pitch 0.5mm, Thermal Pad 5.2x4.5mm, IPC Low Density)
part A pins: 1 IORDY (in) "ATA control. Apply a 1 k pull up to 3.3 V.", 2 DMARQ (in) "ATA control.", 18 DD0 (io) "ATA data bit 0.", 19 DD1 (io) "ATA data bit 1.", 20 DD2 (io) "ATA data bit 2.", 21 DD3 (io) "ATA data bit 3.", 22 DD4 (io) "ATA data bit 4.", 23 DD5 (io) "ATA data bit 5.", 24 DD6 (io) "ATA data bit 6.", 25 DD7 (io) "ATA data bit 7.", 29 DIOW# (hiz) "ATA control.", 30 DIOR# (hiz) "ATA control.", 31 DMACK# (hiz) "ATA control.", 33 INTRQ (in) "ATA interrupt request.", 34 DA0 (hiz) "ATA address.", 35 DA1 (hiz) "ATA address.", 37 CS0# (hiz) "ATA chip select.", 38 CS1# (hiz) "ATA chip select.", 39 DA2 (hiz) "ATA address.", 40 ARESET# (hiz) "ATA reset.", 45 DD8 (io) "ATA data bit 8.", 46 DD9 (io) "ATA data bit 9.", 47 DD10 (io) "ATA data bit 10.", 48 DD11 (io) "ATA data bit 11.", 49 DD12 (io) "ATA data bit 12.", 50 DD13 (io) "ATA data bit 13.", 51 DD14 (io) "ATA data bit 14.", 52 DD15 (io) "ATA data bit 15."
part B pins: 4 XTALOUT "24 MHz crystal output.", 5 XTALIN (in) "24 MHz crystal input", 8 DPLUS (io) "USB D+ signal", 9 DMINUS (io) "USB D- signal", 13 GPIO1 (io) "General Purpose I/O pins The GPIO pins must be tied to GND if functionality is not used.", 15 SCL (out) "Clock signal for I2C interface.Apply a 2.2k pull up resistor.", 16 SDA (io) "Data signal for I2C interface.Apply a 2.2k pull up resistor", 36 GPIO0 (io) "General Purpose I/O pins The GPIO pins must be tied to GND if functionality is not used.", 42 RESET# (in) "Chip reset", 44 VBUS_ATA_ENABLE (in) "VBUS detection", 54 GPIO2 (io) "General Purpose I/O pins The GPIO pins must be tied to GND if functionality is not used."
part C pins: 3 AVCC (power) "Analog VCC. Connect to VCC through the shortest path possible.", 6 AGND (power) "Analog ground. Connect to ground with as short a path as possible.", 7 VCC (power) "VCC. Connect to 3.3 V power source.", 10 GND (power) "Ground.", 11 VCC (power) "VCC. Connect to 3.3 V power source.", 12 GND (power) "Ground.", 14 GND (power) "Ground.", 17 VCC (power) "VCC. Connect to 3.3 V power source.", 26 GND (power) "Ground.", 27 VCC (power) "VCC. Connect to 3.3 V power source.", 28 GND (power) "Ground.", 32 VCC (power) "VCC. Connect to 3.3 V power source.", 41 GND (power) "Ground.", 43 VCC (power) "VCC. Connect to 3.3 V power source.", 53 GND (power) "Ground.", 55 VCC (power) "VCC. Connect to 3.3 V power source.", 56 GND (power) "Ground.", 57 EP

## CY7C68320C-100AXC
designator U?
EZ-USB AT2LP(TM) USB 2.0 to ATA/ATAPI Bridge, 6 I/Os, 3 to 3.6 V, 0 to 70 degC, 100-Pin TQFP (AX100RA), Tray; Manufacturer: Cypress; PartNumber: CY7C68320C-100AXC; Max. Operating Voltage (V): 3.6; Min. Operating Voltage (V): 3; No. of I/Os: 6; Populated: Yes; DatasheetVersion: Rev. *K; PackageVersion: Rev. *E; PackageReference: AX100RA; PackageDescription: 100-Pin Thin Quad Flat Pack, Body 14 x 20 mm, Pitch 0.65 mm; Supplier 1: Digi-Key; Supplier Part Number 1: 428-2267-ND; Max. Operating Temp. (degreesC): 70; Min. Operating Temp. (degreesC): 0; Packing: Tray; RoHS: Pb-Free; Mounting Technology: Surface Mount; Code_JEDEC: MS-026; ComponentLink1Description: Manufacturer URL; ComponentLink1URL: http://www.cypress.com/; ComponentLink2Description: Datasheet; ComponentLink2URL: http://www.cypress.com/?docID=36507; ComponentLink3Description: Package Specification; ComponentLink3URL: http://www.cypress.com/?docID=48215
footprint CYP-AX100RA_N (QFP, 100-Leads, Body 20x14mm, Pitch 0.65mm, IPC Medium Density)
footprint CYP-AX100RA_L (QFP, 100-Leads, Body 20x14mm, Pitch 0.65mm, IPC High Density)
footprint CYP-AX100RA_M (QFP, 100-Leads, Body 20x14mm, Pitch 0.65mm, IPC Low Density)
part A pins: 3 IORDY (in) "ATA control. Apply a 1 k pull up to 3.3 V.", 4 DMARQ (in) "ATA control.", 34 DD0 (io) "ATA data bit 0.", 35 DD1 (io) "ATA data bit 1.", 36 DD2 (io) "ATA data bit 2.", 37 DD3 (io) "ATA data bit 3.", 44 DD4 (io) "ATA data bit 4.", 45 DD5 (io) "ATA data bit 5.", 46 DD6 (io) "ATA data bit 6.", 47 DD7 (io) "ATA data bit 7. Apply a 1k pull down to GND.", 54 DIOW# (hiz) "ATA control.", 55 DIOR# (hiz) "ATA control.", 56 DMACK# (hiz) "ATA control.", 67 INTRQ (in) "ATA interrupt request.", 68 DA0 (hiz) "ATA address.", 69 DA1 (hiz) "ATA address.", 71 CS0# (hiz) "ATA chip select.", 72 CS1# (hiz) "ATA chip select.", 73 DA2 (hiz) "ATA address.", 74 ARESET# (hiz) "ATA reset.", 80 DD8 (io) "ATA data bit 8.", 81 DD9 (io) "ATA data bit 9.", 82 DD10 (io) "ATA data bit 10.", 83 DD11 (io) "ATA data bit 11.", 95 DD12 (io) "ATA data bit 12.", 96 DD13 (io) "ATA data bit 13.", 97 DD14 (io) "ATA data bit 14.", 98 DD15 (io) "ATA data bit 15.", 100 ATAPUEN (io) "Bus powered ATA pull up voltage source (see ATAPUEN on page 15). Alternate function: General purpose input when the EEPROM configuration byte 8 has bit 7 set to ¡®1¡¯. The input value is reported through EP1IN (byte 0, (See Datasheet)"
part B pins: 10 XTALOUT "24 MHz crystal output. (See XTALIN, XTALOUT on page 13).", 11 XTALIN (in) "24 MHz crystal input. (See XTALIN, XTALOUT on page 13).", 17 DPLUS (io) "USB D+ signal (See DPLUS, DMINUS on page 13).", 18 DMINUS (io) "USB D- signal (See DPLUS, DMINUS on page 13).", 22 SYSIRQ (in) "USB interrupt request. (See SYSIRQ on page 13). Active", 26 PWR500# (io) "N/A for CY7C68320C/CY7C68321C 56-pin packages.", 29 SCL (out) "Clock signal for I2C interface. (See SCL, SDA on page 13). Apply a 2.2k pull up resistor.", 30 SDA (io) "Data signal for I2C interface. (See SCL, SDA on page 13). Apply a 2.2k pull up resistor.", 58 LOWPWR# (out) "USB suspend indicator. (See LOWPWR# on page 14).", 62 VBUSPWRD (in) "Bus powered mode selector. (See VBUSPWRD on page 15).", 70 DRVPWRVLD (in) "Device presence detect. (See DRVPWRVLD on page 14). Configurable logical polarity is controlled by EEPROM address 0x08. This pin must be pulled HIGH if functionality is not used. Alternate function. Input when the EEPROM (See Datasheet)", 77 RESET# (in) "Chip reset (See RESET# on page 15).", 79 VBUS_ATA_ENABLE (in) "VBUS detection (See VBUS_ATA_ENABLE on page 15).", 88 GPIO0 (io) "General Purpose I/O pins (See GPIO Pins on page 14). The GPIO pins must be tied to GND if functionality is not used.", 89 GPIO1 (io) "General Purpose I/O pins (See GPIO Pins on page 14). The GPIO pins must be tied to GND if functionality is not used.", 90 GPIO2 (io) "General Purpose I/O pins (See GPIO Pins on page 14). The GPIO pins must be tied to GND if functionality is not used.", 91 GPIO3 (io) "General Purpose I/O pins (See GPIO Pins on page 14). The GPIO pins must be tied to GND if functionality is not used.", 92 GPIO4 (io) "General Purpose I/O pins (See GPIO Pins on page 14). The GPIO pins must be tied to GND if functionality is not used.", 93 GPIO5 (io) "General Purpose I/O pins (See GPIO Pins on page 14). The GPIO pins must be tied to GND if functionality is not used."
part C pins: 1 VCC (power) "VCC. Connect to 3.3 V power source.", 2 GND (power) "Ground.", 5 GND (power) "Ground.", 6 GND (power) "Ground.", 7 GND (power) "Ground.", 8 GND (power) "Ground.", 9 AVCC (power) "Analog VCC. Connect to VCC through the shortest path possible.", 12 AGND (power) "Analog ground. Connect to ground with as short a path as possible.", 16 VCC (power) "VCC. Connect to 3.3 V power source.", 19 GND (power) "Ground.", 20 VCC (power) "VCC. Connect to 3.3 V power source.", 21 GND (power) "Ground.", 23 GND (power) "HIGH. Connect to GND if functionality is not used.", 24 GND (power) "Ground.", 25 GND (power) "bMaxPower request granted indicator. (See PWR500# on page 15). Active LOW.", 27 GND (power) "Reserved. Tie to GND.", 33 VCC (power) "VCC. Connect to 3.3 V power source.", 38 VCC (power) "VCC. Connect to 3.3 V power source.", 39 GND (power) "Ground.", 41 GND (power) "Ground.", 43 GND (power) "Ground.", 48 GND (power) "Ground.", 49 VCC (power) "VCC. Connect to 3.3 V power source.", 50 GND (power) "Ground.", 53 VCC (power) "VCC. Connect to 3.3 V power source.", 65 GND (power) "Ground.", 66 VCC (power) "VCC. Connect to 3.3 V power source.", 75 GND (power) "Ground.", 78 VCC (power) "VCC. Connect to 3.3 V power source.", 84 GND (power) "Ground.", 85 VCC (power) "VCC. Connect to 3.3 V power source.", 94 GND (power) "Ground.", 99 GND (power) "Ground."
part D pins: 13 NC "No connect.", 14 NC "No connect.", 15 NC "No connect.", 28 NC "No connect.", 31 NC "No connect.", 32 NC "No connect.", 40 NC "No connect.", 42 NC "No connect.", 51 NC "No connect.", 52 NC "No connect.", 57 NC "No connect.", 59 NC "No connect.", 60 NC "No connect.", 61 NC "No connect.", 63 NC "No connect.", 64 NC "No connect.", 76 NC "No connect.", 86 NC "No connect.", 87 NC "No connect."

## CY7C68321C-56LTXC
designator U?
EZ-USB AT2LP(TM) USB 2.0 to ATA/ATAPI Bridge, 3 I/Os, 3 to 3.6 V, 0 to 70 degC, 56-Pin QFN (LTX56), Tray; Manufacturer: Cypress; PartNumber: CY7C68321C-56LTXC; Max. Operating Voltage (V): 3.6; Min. Operating Voltage (V): 3; Populated: Yes; DatasheetVersion: Rev. *K; PackageVersion: Rev. *D; PackageReference: LTX56; PackageDescription: 56-Pin Sawn QFN, Body 8 x 8 mm, Pitch 0.5 mm; Supplier 1: Digi-Key; Supplier Part Number 1: CY7C68321C-56LTXC-ND; Max. Operating Temp. (degreesC): 70; Min. Operating Temp. (degreesC): 0; No. of I/Os: 3; Packing: Tray; RoHS: Pb-Free; Mounting Technology: Surface Mount; Code_JEDEC: MO-220; ComponentLink1Description: Manufacturer URL; ComponentLink1URL: http://www.cypress.com/; ComponentLink2Description: Datasheet; ComponentLink2URL: http://www.cypress.com/?docID=36507; ComponentLink3Description: Package Specification; ComponentLink3URL: http://www.cypress.com/?docID=47572
footprint CYP-LTX56-5200X4500TP_N (QFN, 56-Leads, Body 8.1x8.1mm, Pitch 0.5mm, Thermal Pad 5.2x4.5mm, IPC Medium Density)
footprint CYP-LTX56-5200X4500TP_L (QFN, 56-Leads, Body 8.1x8.1mm, Pitch 0.5mm, Thermal Pad 5.2x4.5mm, IPC High Density)
footprint CYP-LTX56-5200X4500TP_M (QFN, 56-Leads, Body 8.1x8.1mm, Pitch 0.5mm, Thermal Pad 5.2x4.5mm, IPC Low Density)
part A pins: 1 IORDY (in) "ATA control. Apply a 1 k pull up to 3.3 V.", 2 DMARQ (in) "ATA control.", 18 DD0 (io) "ATA data bit 0.", 19 DD1 (io) "ATA data bit 1.", 20 DD2 (io) "ATA data bit 2.", 21 DD3 (io) "ATA data bit 3.", 22 DD4 (io) "ATA data bit 4.", 23 DD5 (io) "ATA data bit 5.", 24 DD6 (io) "ATA data bit 6.", 25 DD7 (io) "ATA data bit 7.", 29 DIOW# (hiz) "ATA control.", 30 DIOR# (hiz) "ATA control.", 31 DMACK# (hiz) "ATA control.", 33 INTRQ (in) "ATA interrupt request.", 34 DA0 (hiz) "ATA address.", 35 DA1 (hiz) "ATA address.", 37 CS0# (hiz) "ATA chip select.", 38 CS1# (hiz) "ATA chip select.", 39 DA2 (hiz) "ATA address.", 40 ARESET# (hiz) "ATA reset.", 45 DD8 (io) "ATA data bit 8.", 46 DD9 (io) "ATA data bit 9.", 47 DD10 (io) "ATA data bit 10.", 48 DD11 (io) "ATA data bit 11.", 49 DD12 (io) "ATA data bit 12.", 50 DD13 (io) "ATA data bit 13.", 51 DD14 (io) "ATA data bit 14.", 52 DD15 (io) "ATA data bit 15."
part B pins: 4 XTALOUT "24 MHz crystal output.", 5 XTALIN (in) "24 MHz crystal input", 8 DPLUS (io) "USB D+ signal", 9 DMINUS (io) "USB D- signal", 13 GPIO1 (io) "General Purpose I/O pins The GPIO pins must be tied to GND if functionality is not used.", 15 SCL (out) "Clock signal for I2C interface.Apply a 2.2k pull up resistor.", 16 SDA (io) "Data signal for I2C interface.Apply a 2.2k pull up resistor", 36 GPIO0 (io) "General Purpose I/O pins The GPIO pins must be tied to GND if functionality is not used.", 42 RESET# (in) "Chip reset", 44 VBUS_ATA_ENABLE (in) "VBUS detection", 54 GPIO2 (io) "General Purpose I/O pins The GPIO pins must be tied to GND if functionality is not used."
part C pins: 3 AVCC (power) "Analog VCC. Connect to VCC through the shortest path possible.", 6 AGND (power) "Analog ground. Connect to ground with as short a path as possible.", 7 VCC (power) "VCC. Connect to 3.3 V power source.", 10 GND (power) "Ground.", 11 VCC (power) "VCC. Connect to 3.3 V power source.", 12 GND (power) "Ground.", 14 GND (power) "Ground.", 17 VCC (power) "VCC. Connect to 3.3 V power source.", 26 GND (power) "Ground.", 27 VCC (power) "VCC. Connect to 3.3 V power source.", 28 GND (power) "Ground.", 32 VCC (power) "VCC. Connect to 3.3 V power source.", 41 GND (power) "Ground.", 43 VCC (power) "VCC. Connect to 3.3 V power source.", 53 GND (power) "Ground.", 55 VCC (power) "VCC. Connect to 3.3 V power source.", 56 GND (power) "Ground.", 57 EP

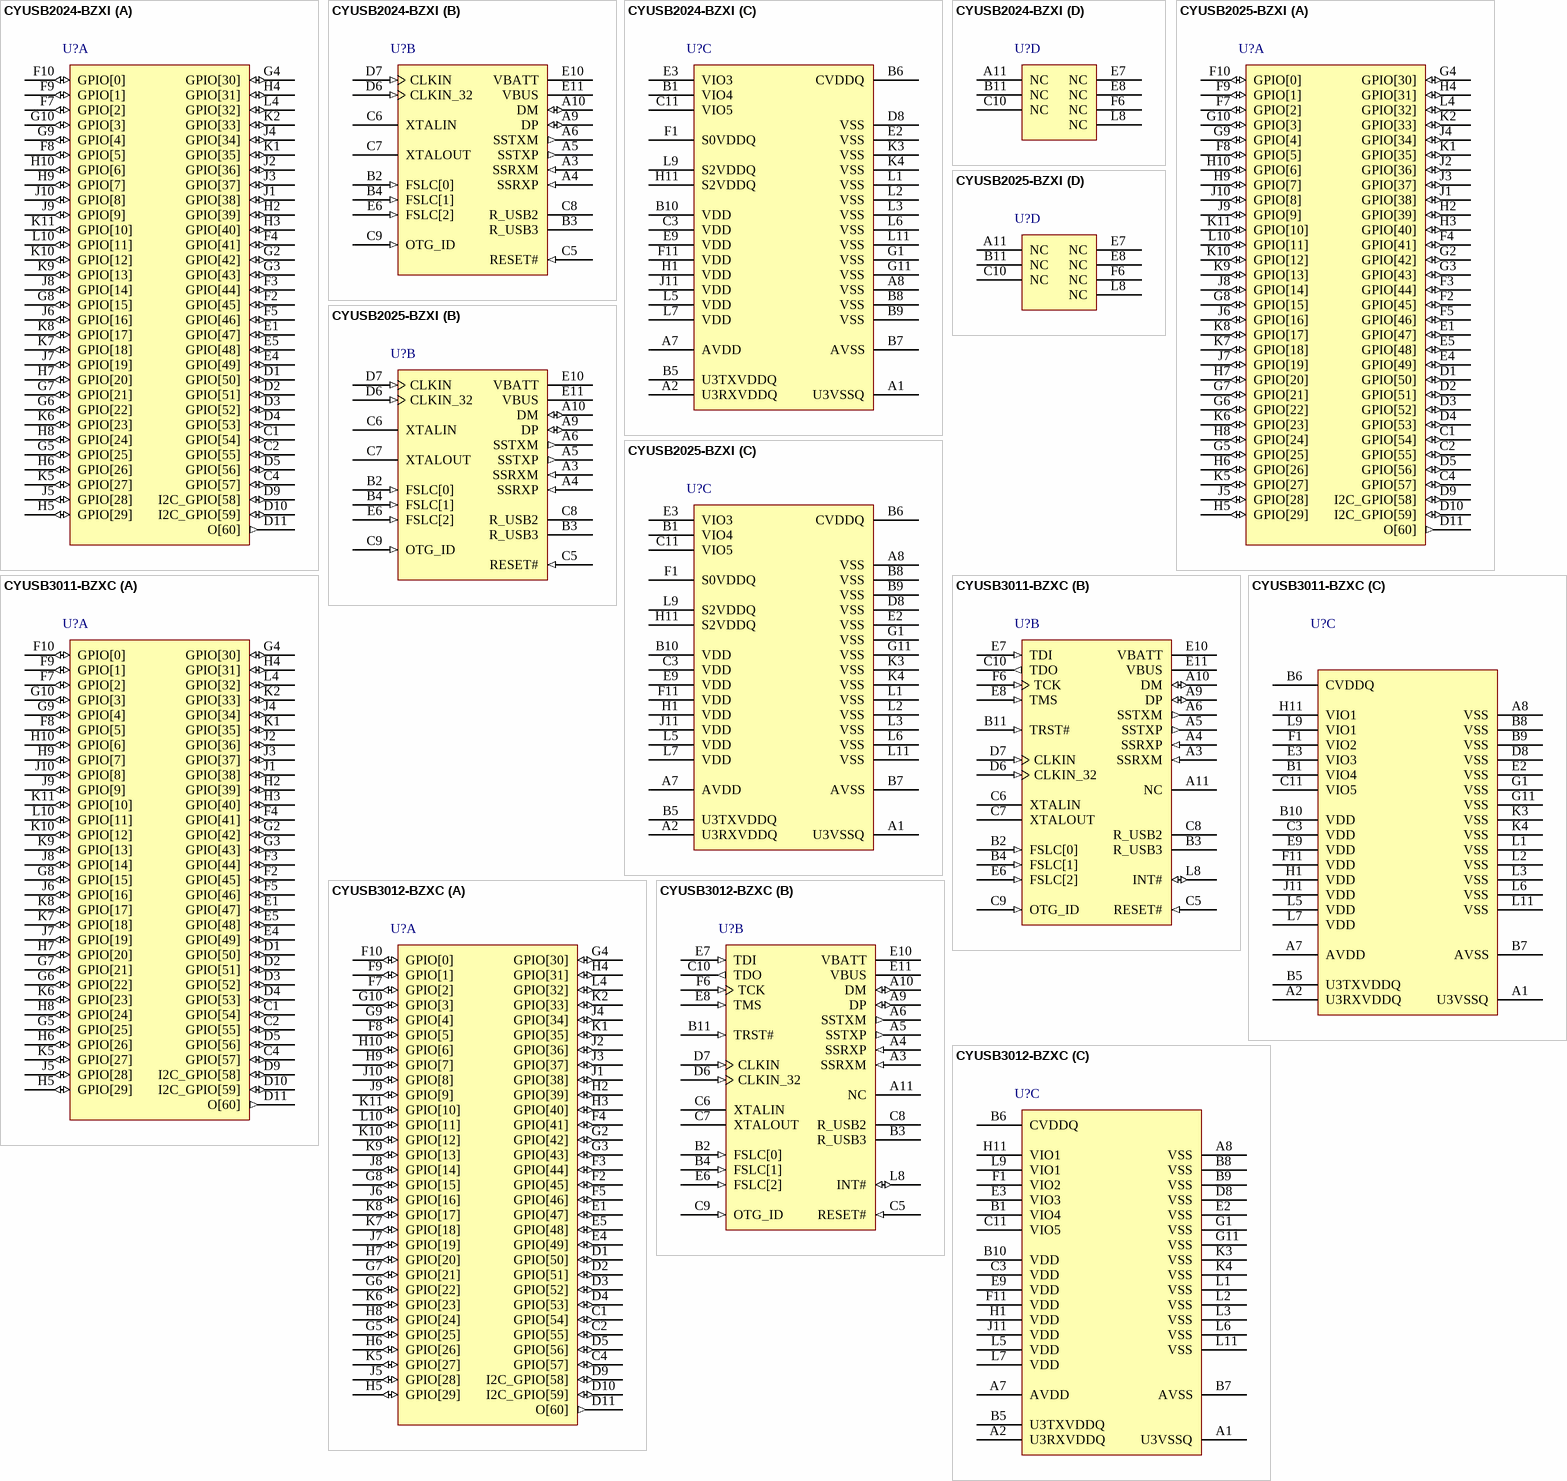
[diagram p14: symbols CYUSB2024-BZXI to CYUSB3012-BZXC]